# EAGLE library part HDR4X3PWR (library hotmetal)
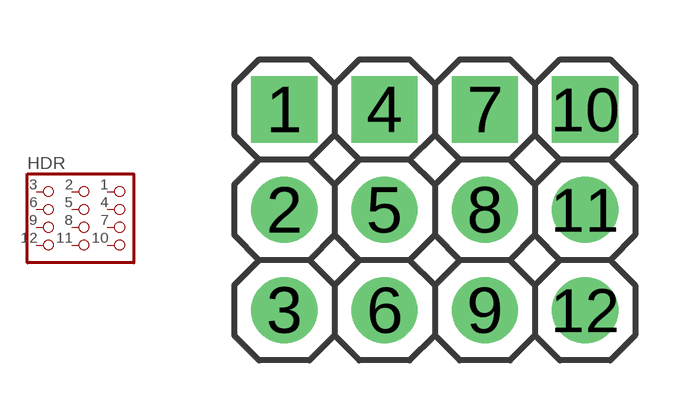
[diagram p2: symbol with the pads of HDR4X3PWR; footprint HDR4X3PWR]

Designator prefix HDR

## HDR4X3PWR  [HDR4X3PWR]
1  1  pas
2  2  pas
3  3  pas
4  4  pas
5  5  pas
6  6  pas
7  7  pas
8  8  pas
9  9  pas
10  10  pas
11  11  pas
12  12  pas

## Footprint HDR4X3PWR (pad centres in mm)
drill 1.016 pad 1.676 square: 1 -3.81,1.27; 4 -1.27,1.27; 7 1.27,1.27; 10 3.81,1.27
drill 1.016 pad 1.676: 2 -3.81,-1.27; 3 -3.81,-3.81; 5 -1.27,-1.27; 6 -1.27,-3.81; 8 1.27,-1.27; 9 1.27,-3.81; 11 3.81,-1.27; 12 3.81,-3.81